# EAGLE library part MAGJACK (library BaseApp)
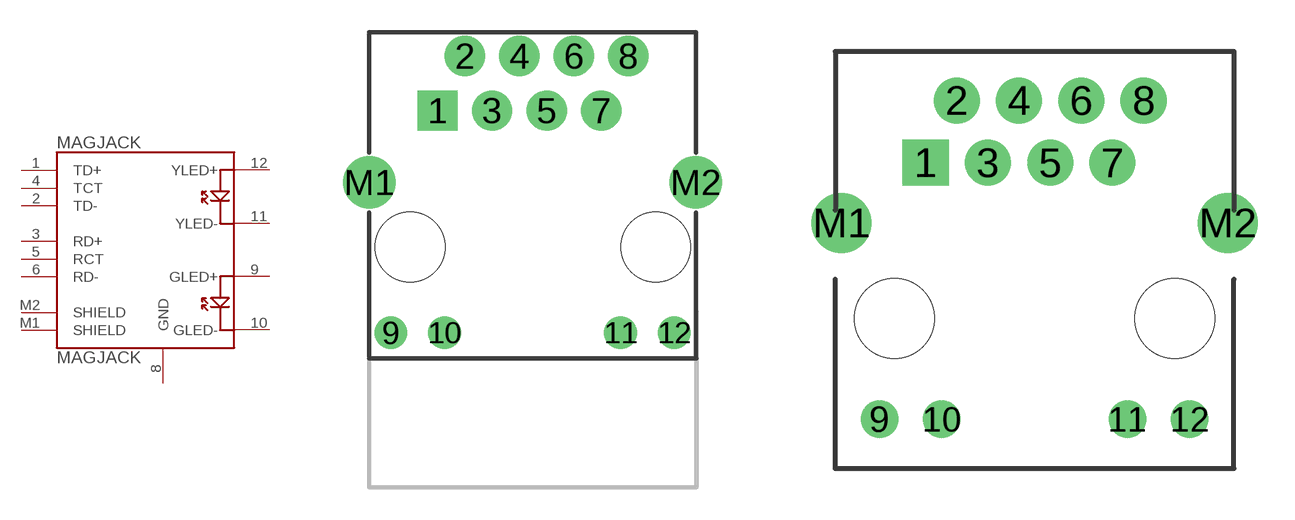
[diagram p14: symbol with the pads of MAGJACK; footprints MAGJACK, MAGJACK-VERTICAL]

Designator prefix MAGJACK

## MAGJACK (HANRUN: HR911105A)  [MAGJACK]
1  TD+
2  TD-
3  RD+
4  TCT
5  RCT
6  RD-
8  GND
9  GLED+
10  GLED-
11  YLED-
12  YLED+
M1  SHIELD
M2  SHIELD

## MAGJACK-VERTICAL (DIGIKEY: 380-1198-ND; PRICE_PER_UNIT: 4.10)  [MAGJACK-VERTICAL]
1  TD+
2  TCT
3  TD-
4  RD+
5  RCT
6  RD-
8  GND
9  YLED+
10  YLED-
11  GLED+
12  GLED-
M1  SHIELD
M2  SHIELD

## Footprint MAGJACK (pad centres in mm)
drill 1 pad 1.88 square: 1 -4.445,6.015
drill 1 pad 1.88: 2 -3.175,8.555; 3 -1.905,6.015; 4 -0.635,8.555; 5 0.635,6.015; 6 1.905,8.555; 7 3.175,6.015; 8 4.445,8.555
drill 1.02 pad 1.27: 9 -6.62,-4.33; 10 -4.12,-4.33; 11 4.08,-4.33; 12 6.58,-4.33
drill 1.63 pad 2.184: M1 -7.62,2.67; M2 7.58,2.67
hole 3.25 at -5.715,-0.335
hole 3.25 at 5.715,-0.335

## Footprint MAGJACK-VERTICAL (pad centres in mm)
drill 1 pad 1.88 square: 1 -4.445,3.96
drill 1 pad 1.88: 2 -3.175,6.5; 3 -1.905,3.96; 4 -0.635,6.5; 5 0.635,3.96; 6 1.905,6.5; 7 3.175,3.96; 8 4.445,6.5
drill 1.02 pad 1.27: 9 -6.325,-6.5; 10 -3.785,-6.5; 11 3.785,-6.5; 12 6.325,-6.5
drill 1.63 pad 2.184: M1 -7.875,1.5; M2 7.875,1.5
hole 3.25 at -5.715,-2.39
hole 3.25 at 5.715,-2.39